# EAGLE library part DS2777 (library kwoo)
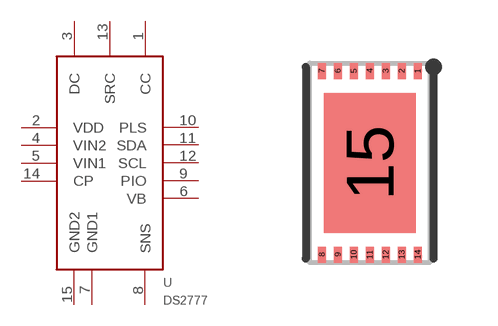
[diagram p12: symbol with the pads of 14-TDFN; footprint 14-TDFN]

Designator prefix -

## DS2777  [14-TDFN]
1  CC
2  VDD
3  DC
4  VIN2
5  VIN1
6  VB
7  GND1
8  SNS
9  PIO
10  PLS
11  SDA
12  SCL
13  SRC
14  CP
15  GND2

## Footprint 14-TDFN (pad centres in mm)
smd 0.2 x 0.4: 1 1.2,2.3; 2 0.8,2.3; 3 0.4,2.3; 4 0,2.3; 5 -0.4,2.3; 6 -0.8,2.3; 7 -1.2,2.3; 8 -1.2,-2.3; 9 -0.8,-2.3; 10 -0.4,-2.3; 11 0,-2.3; 12 0.4,-2.3; 13 0.8,-2.3; 14 1.2,-2.3
smd 2.3 x 3.5: 15 0,0